# Altium footprint library Connector_Samtec_HLE_SMD.PcbLib: 290 footprints (part 21 of 24)
Each footprint in its own frame and in the unit in brackets; x right, y up, seen from the top. Pads: shape width x height; smd on the part's side, far side on the other; paste and mask are expansions set on the pad; w line width, h text height; cw(c..) or ccw(c..) is an arc to the next point about the centre after c.
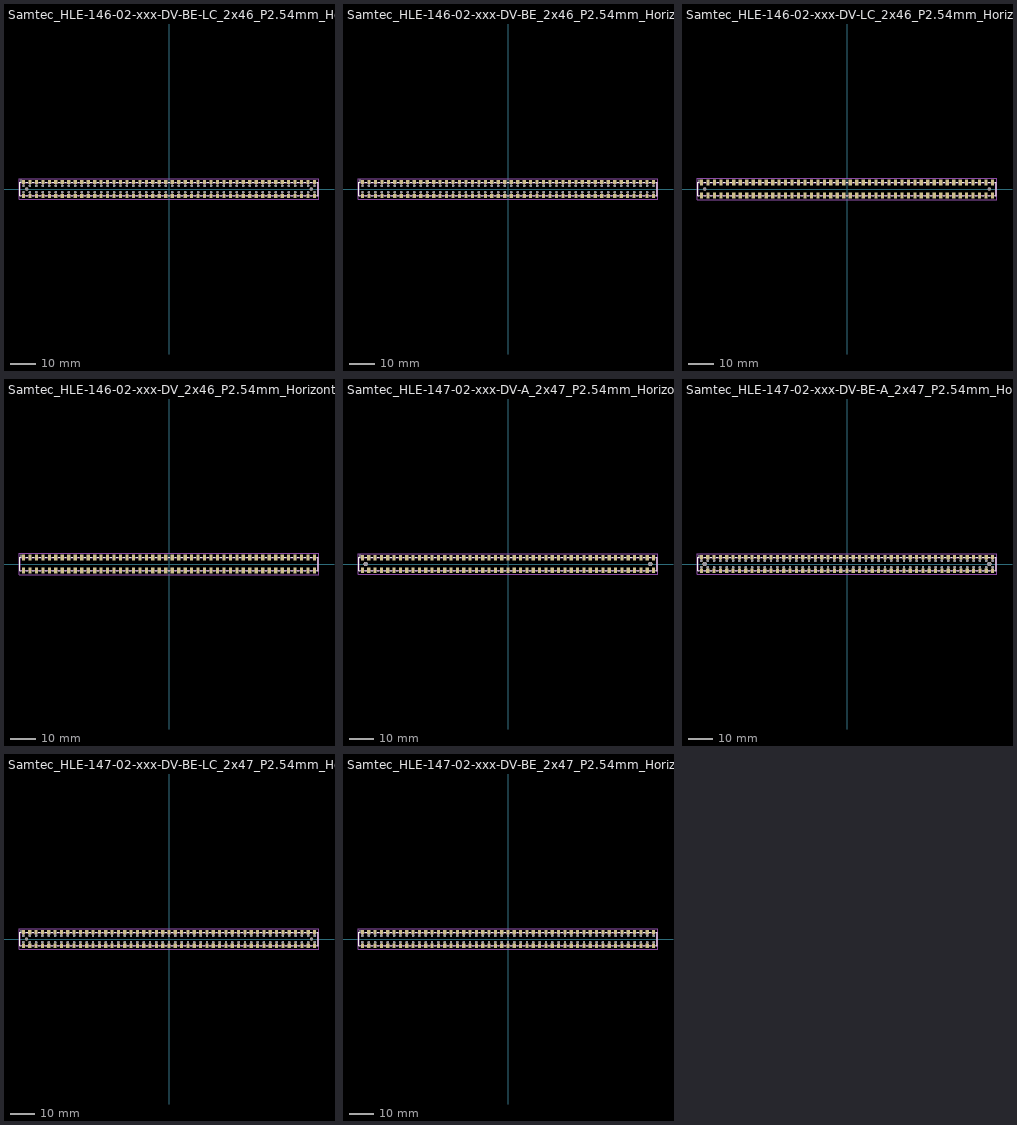
[diagram p20: the footprints below, top view; thin cyan lines are the x and y axes]

## Samtec_HLE-146-02-xxx-DV-BE-LC_2x46_P2.54mm_Horizontal [mm]
pads (186):
  rect 1.27x1.68 smd: 1(-57.15,2.72) 2(-57.15,-2.72) 3(-54.61,2.72) 4(-54.61,-2.72) 5(-52.07,2.72) 6(-52.07,-2.72) 7(-49.53,2.72) 8(-49.53,-2.72) 9(-46.99,2.72) 10(-46.99,-2.72) 11(-44.45,2.72) 12(-44.45,-2.72) 13(-41.91,2.72) 14(-41.91,-2.72) 15(-39.37,2.72) 16(-39.37,-2.72) 17(-36.83,2.72) 18(-36.83,-2.72) 19(-34.29,2.72) 20(-34.29,-2.72) 21(-31.75,2.72) 22(-31.75,-2.72) 23(-29.21,2.72) 24(-29.21,-2.72) 25(-26.67,2.72) 26(-26.67,-2.72) 27(-24.13,2.72) 28(-24.13,-2.72) 29(-21.59,2.72) 30(-21.59,-2.72) 31(-19.05,2.72) 32(-19.05,-2.72) 33(-16.51,2.72) 34(-16.51,-2.72) 35(-13.97,2.72) 36(-13.97,-2.72) 37(-11.43,2.72) 38(-11.43,-2.72) 39(-8.89,2.72) 40(-8.89,-2.72) 41(-6.35,2.72) 42(-6.35,-2.72) 43(-3.81,2.72) 44(-3.81,-2.72) 45(-1.27,2.72) 46(-1.27,-2.72) 47(1.27,2.72) 48(1.27,-2.72) 49(3.81,2.72) 50(3.81,-2.72) 51(6.35,2.72) 52(6.35,-2.72) 53(8.89,2.72) 54(8.89,-2.72) 55(11.43,2.72) 56(11.43,-2.72) 57(13.97,2.72) 58(13.97,-2.72) 59(16.51,2.72) 60(16.51,-2.72) 61(19.05,2.72) 62(19.05,-2.72) 63(21.59,2.72) 64(21.59,-2.72) 65(24.13,2.72) 66(24.13,-2.72) 67(26.67,2.72) 68(26.67,-2.72) 69(29.21,2.72) 70(29.21,-2.72) 71(31.75,2.72) 72(31.75,-2.72) 73(34.29,2.72) 74(34.29,-2.72) 75(36.83,2.72) 76(36.83,-2.72) 77(39.37,2.72) 78(39.37,-2.72) 79(41.91,2.72) 80(41.91,-2.72) 81(44.45,2.72) 82(44.45,-2.72) 83(46.99,2.72) 84(46.99,-2.72) 85(49.53,2.72) 86(49.53,-2.72) 87(52.07,2.72) 88(52.07,-2.72) 89(54.61,2.72) 90(54.61,-2.72) 91(57.15,2.72) 92(57.15,-2.72)
  round 0.97 hole 0.97: Un1(-57.15,1.27) Un2(-57.15,-1.27) Un4(-54.61,1.27) Un5(-54.61,-1.27) Un6(-52.07,1.27) Un7(-52.07,-1.27) Un8(-49.53,1.27) Un9(-49.53,-1.27) Un10(-46.99,1.27) Un11(-46.99,-1.27) Un12(-44.45,1.27) Un13(-44.45,-1.27) Un14(-41.91,1.27) Un15(-41.91,-1.27) Un16(-39.37,1.27) Un17(-39.37,-1.27) Un18(-36.83,1.27) Un19(-36.83,-1.27) Un20(-34.29,1.27) Un21(-34.29,-1.27) Un22(-31.75,1.27) Un23(-31.75,-1.27) Un24(-29.21,1.27) Un25(-29.21,-1.27) Un26(-26.67,1.27) Un27(-26.67,-1.27) Un28(-24.13,1.27) Un29(-24.13,-1.27) Un30(-21.59,1.27) Un31(-21.59,-1.27) Un32(-19.05,1.27) Un33(-19.05,-1.27) Un34(-16.51,1.27) Un35(-16.51,-1.27) Un36(-13.97,1.27) Un37(-13.97,-1.27) Un38(-11.43,1.27) Un39(-11.43,-1.27) Un40(-8.89,1.27) Un41(-8.89,-1.27) Un42(-6.35,1.27) Un43(-6.35,-1.27) Un44(-3.81,1.27) Un45(-3.81,-1.27) Un46(-1.27,1.27) Un47(-1.27,-1.27) Un48(1.27,1.27) Un49(1.27,-1.27) Un50(3.81,1.27) Un51(3.81,-1.27) Un52(6.35,1.27) Un53(6.35,-1.27) Un54(8.89,1.27) Un55(8.89,-1.27) Un56(11.43,1.27) Un57(11.43,-1.27) Un58(13.97,1.27) Un59(13.97,-1.27) Un60(16.51,1.27) Un61(16.51,-1.27) Un62(19.05,1.27) Un63(19.05,-1.27) Un64(21.59,1.27) Un65(21.59,-1.27) Un66(24.13,1.27) Un67(24.13,-1.27) Un68(26.67,1.27) Un69(26.67,-1.27) Un70(29.21,1.27) Un71(29.21,-1.27) Un72(31.75,1.27) Un73(31.75,-1.27) Un74(34.29,1.27) Un75(34.29,-1.27) Un76(36.83,1.27) Un77(36.83,-1.27) Un78(39.37,1.27) Un79(39.37,-1.27) Un80(41.91,1.27) Un81(41.91,-1.27) Un82(44.45,1.27) Un83(44.45,-1.27) Un84(46.99,1.27) Un85(46.99,-1.27) Un86(49.53,1.27) Un87(49.53,-1.27) Un88(52.07,1.27) Un89(52.07,-1.27) Un90(54.61,1.27) Un91(54.61,-1.27) Un93(57.15,1.27) Un94(57.15,-1.27)
  round 1.19 hole 1.19: Un3(-55.88,0) Un92(55.88,0)
F.SilkS:
  lines w0.254: -58.045,-2.65 -58.53,-2.65 -58.53,2.65 -58.045,2.65 -58.045,3.56 ; -56.255,-2.65 -55.505,-2.65 ; -56.255,2.65 -55.505,2.65 ; -53.715,-2.65 -52.965,-2.65 ; -53.715,2.65 -52.965,2.65 ; -51.175,-2.65 -50.425,-2.65 ; -51.175,2.65 -50.425,2.65 ; -48.635,-2.65 -47.885,-2.65 ; -48.635,2.65 -47.885,2.65 ; -46.095,-2.65 -45.345,-2.65 ; -46.095,2.65 -45.345,2.65 ; -43.555,-2.65 -42.805,-2.65 ; -43.555,2.65 -42.805,2.65 ; -41.015,-2.65 -40.265,-2.65 ; -41.015,2.65 -40.265,2.65 ; -38.475,-2.65 -37.725,-2.65 ; -38.475,2.65 -37.725,2.65 ; -35.935,-2.65 -35.185,-2.65 ; -35.935,2.65 -35.185,2.65 ; -33.395,-2.65 -32.645,-2.65 ; -33.395,2.65 -32.645,2.65 ; -30.855,-2.65 -30.105,-2.65 ; -30.855,2.65 -30.105,2.65 ; -28.315,-2.65 -27.565,-2.65 ; -28.315,2.65 -27.565,2.65 ; -25.775,-2.65 -25.025,-2.65 ; -25.775,2.65 -25.025,2.65 ; -23.235,-2.65 -22.485,-2.65 ; -23.235,2.65 -22.485,2.65 ; -20.695,-2.65 -19.945,-2.65 ; -20.695,2.65 -19.945,2.65 ; -18.155,-2.65 -17.405,-2.65 ; -18.155,2.65 -17.405,2.65 ; -15.615,-2.65 -14.865,-2.65 ; -15.615,2.65 -14.865,2.65 ; -13.075,-2.65 -12.325,-2.65 ; -13.075,2.65 -12.325,2.65 ; -10.535,-2.65 -9.785,-2.65 ; -10.535,2.65 -9.785,2.65 ; -7.995,-2.65 -7.245,-2.65 ; -7.995,2.65 -7.245,2.65 ; -5.455,-2.65 -4.705,-2.65 ; -5.455,2.65 -4.705,2.65 ; -2.915,-2.65 -2.165,-2.65 ; -2.915,2.65 -2.165,2.65 ; -0.375,-2.65 0.375,-2.65 ; -0.375,2.65 0.375,2.65 ; 2.165,-2.65 2.915,-2.65 ; 2.165,2.65 2.915,2.65 ; 4.705,-2.65 5.455,-2.65 ; 4.705,2.65 5.455,2.65 ; 7.245,-2.65 7.995,-2.65 ; 7.245,2.65 7.995,2.65 ; 9.785,-2.65 10.535,-2.65 ; 9.785,2.65 10.535,2.65 ; 12.325,-2.65 13.075,-2.65 ; 12.325,2.65 13.075,2.65 ; 14.865,-2.65 15.615,-2.65 ; 14.865,2.65 15.615,2.65 ; 17.405,-2.65 18.155,-2.65 ; 17.405,2.65 18.155,2.65 ; 19.945,-2.65 20.695,-2.65 ; 19.945,2.65 20.695,2.65 ; 22.485,-2.65 23.235,-2.65 ; 22.485,2.65 23.235,2.65 ; 25.025,-2.65 25.775,-2.65 ; 25.025,2.65 25.775,2.65 ; 27.565,-2.65 28.315,-2.65 ; 27.565,2.65 28.315,2.65 ; 30.105,-2.65 30.855,-2.65 ; 30.105,2.65 30.855,2.65 ; 32.645,-2.65 33.395,-2.65 ; 32.645,2.65 33.395,2.65 ; 35.185,-2.65 35.935,-2.65 ; 35.185,2.65 35.935,2.65 ; 37.725,-2.65 38.475,-2.65 ; 37.725,2.65 38.475,2.65 ; 40.265,-2.65 41.015,-2.65 ; 40.265,2.65 41.015,2.65 ; 42.805,-2.65 43.555,-2.65 ; 42.805,2.65 43.555,2.65 ; 45.345,-2.65 46.095,-2.65 ; 45.345,2.65 46.095,2.65 ; 47.885,-2.65 48.635,-2.65 ; 47.885,2.65 48.635,2.65 ; 50.425,-2.65 51.175,-2.65 ; 50.425,2.65 51.175,2.65 ; 52.965,-2.65 53.715,-2.65 ; 52.965,2.65 53.715,2.65 ; 55.505,-2.65 56.255,-2.65 ; 55.505,2.65 56.255,2.65 ; 58.045,-2.65 58.53,-2.65 58.53,2.65 58.045,2.65
Top Assembly:
  lines w0.254: -57.65,2.54 -57.15,1.833 -56.65,2.54 ; -58.42,-2.54 58.42,-2.54 58.42,2.54 -58.42,2.54 -58.42,-2.54
  text "'.Designator'" at -4.047,-2.68 h1
Top Courtyard:
  lines w0.254: -58.92,-4.07 58.92,-4.07 58.92,4.07 -58.92,4.07 -58.92,-4.07
Top Designator:
  text ".Designator" at -7.618,-0.508 h1.52

## Samtec_HLE-146-02-xxx-DV-BE_2x46_P2.54mm_Horizontal [mm]
pads (184):
  rect 1.27x1.68 smd: 1(-57.15,2.72) 2(-57.15,-2.72) 3(-54.61,2.72) 4(-54.61,-2.72) 5(-52.07,2.72) 6(-52.07,-2.72) 7(-49.53,2.72) 8(-49.53,-2.72) 9(-46.99,2.72) 10(-46.99,-2.72) 11(-44.45,2.72) 12(-44.45,-2.72) 13(-41.91,2.72) 14(-41.91,-2.72) 15(-39.37,2.72) 16(-39.37,-2.72) 17(-36.83,2.72) 18(-36.83,-2.72) 19(-34.29,2.72) 20(-34.29,-2.72) 21(-31.75,2.72) 22(-31.75,-2.72) 23(-29.21,2.72) 24(-29.21,-2.72) 25(-26.67,2.72) 26(-26.67,-2.72) 27(-24.13,2.72) 28(-24.13,-2.72) 29(-21.59,2.72) 30(-21.59,-2.72) 31(-19.05,2.72) 32(-19.05,-2.72) 33(-16.51,2.72) 34(-16.51,-2.72) 35(-13.97,2.72) 36(-13.97,-2.72) 37(-11.43,2.72) 38(-11.43,-2.72) 39(-8.89,2.72) 40(-8.89,-2.72) 41(-6.35,2.72) 42(-6.35,-2.72) 43(-3.81,2.72) 44(-3.81,-2.72) 45(-1.27,2.72) 46(-1.27,-2.72) 47(1.27,2.72) 48(1.27,-2.72) 49(3.81,2.72) 50(3.81,-2.72) 51(6.35,2.72) 52(6.35,-2.72) 53(8.89,2.72) 54(8.89,-2.72) 55(11.43,2.72) 56(11.43,-2.72) 57(13.97,2.72) 58(13.97,-2.72) 59(16.51,2.72) 60(16.51,-2.72) 61(19.05,2.72) 62(19.05,-2.72) 63(21.59,2.72) 64(21.59,-2.72) 65(24.13,2.72) 66(24.13,-2.72) 67(26.67,2.72) 68(26.67,-2.72) 69(29.21,2.72) 70(29.21,-2.72) 71(31.75,2.72) 72(31.75,-2.72) 73(34.29,2.72) 74(34.29,-2.72) 75(36.83,2.72) 76(36.83,-2.72) 77(39.37,2.72) 78(39.37,-2.72) 79(41.91,2.72) 80(41.91,-2.72) 81(44.45,2.72) 82(44.45,-2.72) 83(46.99,2.72) 84(46.99,-2.72) 85(49.53,2.72) 86(49.53,-2.72) 87(52.07,2.72) 88(52.07,-2.72) 89(54.61,2.72) 90(54.61,-2.72) 91(57.15,2.72) 92(57.15,-2.72)
  round 0.97 hole 0.97: Un1(-57.15,1.27) Un2(-57.15,-1.27) Un3(-54.61,1.27) Un4(-54.61,-1.27) Un5(-52.07,1.27) Un6(-52.07,-1.27) Un7(-49.53,1.27) Un8(-49.53,-1.27) Un9(-46.99,1.27) Un10(-46.99,-1.27) Un11(-44.45,1.27) Un12(-44.45,-1.27) Un13(-41.91,1.27) Un14(-41.91,-1.27) Un15(-39.37,1.27) Un16(-39.37,-1.27) Un17(-36.83,1.27) Un18(-36.83,-1.27) Un19(-34.29,1.27) Un20(-34.29,-1.27) Un21(-31.75,1.27) Un22(-31.75,-1.27) Un23(-29.21,1.27) Un24(-29.21,-1.27) Un25(-26.67,1.27) Un26(-26.67,-1.27) Un27(-24.13,1.27) Un28(-24.13,-1.27) Un29(-21.59,1.27) Un30(-21.59,-1.27) Un31(-19.05,1.27) Un32(-19.05,-1.27) Un33(-16.51,1.27) Un34(-16.51,-1.27) Un35(-13.97,1.27) Un36(-13.97,-1.27) Un37(-11.43,1.27) Un38(-11.43,-1.27) Un39(-8.89,1.27) Un40(-8.89,-1.27) Un41(-6.35,1.27) Un42(-6.35,-1.27) Un43(-3.81,1.27) Un44(-3.81,-1.27) Un45(-1.27,1.27) Un46(-1.27,-1.27) Un47(1.27,1.27) Un48(1.27,-1.27) Un49(3.81,1.27) Un50(3.81,-1.27) Un51(6.35,1.27) Un52(6.35,-1.27) Un53(8.89,1.27) Un54(8.89,-1.27) Un55(11.43,1.27) Un56(11.43,-1.27) Un57(13.97,1.27) Un58(13.97,-1.27) Un59(16.51,1.27) Un60(16.51,-1.27) Un61(19.05,1.27) Un62(19.05,-1.27) Un63(21.59,1.27) Un64(21.59,-1.27) Un65(24.13,1.27) Un66(24.13,-1.27) Un67(26.67,1.27) Un68(26.67,-1.27) Un69(29.21,1.27) Un70(29.21,-1.27) Un71(31.75,1.27) Un72(31.75,-1.27) Un73(34.29,1.27) Un74(34.29,-1.27) Un75(36.83,1.27) Un76(36.83,-1.27) Un77(39.37,1.27) Un78(39.37,-1.27) Un79(41.91,1.27) Un80(41.91,-1.27) Un81(44.45,1.27) Un82(44.45,-1.27) Un83(46.99,1.27) Un84(46.99,-1.27) Un85(49.53,1.27) Un86(49.53,-1.27) Un87(52.07,1.27) Un88(52.07,-1.27) Un89(54.61,1.27) Un90(54.61,-1.27) Un91(57.15,1.27) Un92(57.15,-1.27)
F.SilkS:
  lines w0.254: -58.045,-2.65 -58.53,-2.65 -58.53,2.65 -58.045,2.65 -58.045,3.56 ; -56.255,-2.65 -55.505,-2.65 ; -56.255,2.65 -55.505,2.65 ; -53.715,-2.65 -52.965,-2.65 ; -53.715,2.65 -52.965,2.65 ; -51.175,-2.65 -50.425,-2.65 ; -51.175,2.65 -50.425,2.65 ; -48.635,-2.65 -47.885,-2.65 ; -48.635,2.65 -47.885,2.65 ; -46.095,-2.65 -45.345,-2.65 ; -46.095,2.65 -45.345,2.65 ; -43.555,-2.65 -42.805,-2.65 ; -43.555,2.65 -42.805,2.65 ; -41.015,-2.65 -40.265,-2.65 ; -41.015,2.65 -40.265,2.65 ; -38.475,-2.65 -37.725,-2.65 ; -38.475,2.65 -37.725,2.65 ; -35.935,-2.65 -35.185,-2.65 ; -35.935,2.65 -35.185,2.65 ; -33.395,-2.65 -32.645,-2.65 ; -33.395,2.65 -32.645,2.65 ; -30.855,-2.65 -30.105,-2.65 ; -30.855,2.65 -30.105,2.65 ; -28.315,-2.65 -27.565,-2.65 ; -28.315,2.65 -27.565,2.65 ; -25.775,-2.65 -25.025,-2.65 ; -25.775,2.65 -25.025,2.65 ; -23.235,-2.65 -22.485,-2.65 ; -23.235,2.65 -22.485,2.65 ; -20.695,-2.65 -19.945,-2.65 ; -20.695,2.65 -19.945,2.65 ; -18.155,-2.65 -17.405,-2.65 ; -18.155,2.65 -17.405,2.65 ; -15.615,-2.65 -14.865,-2.65 ; -15.615,2.65 -14.865,2.65 ; -13.075,-2.65 -12.325,-2.65 ; -13.075,2.65 -12.325,2.65 ; -10.535,-2.65 -9.785,-2.65 ; -10.535,2.65 -9.785,2.65 ; -7.995,-2.65 -7.245,-2.65 ; -7.995,2.65 -7.245,2.65 ; -5.455,-2.65 -4.705,-2.65 ; -5.455,2.65 -4.705,2.65 ; -2.915,-2.65 -2.165,-2.65 ; -2.915,2.65 -2.165,2.65 ; -0.375,-2.65 0.375,-2.65 ; -0.375,2.65 0.375,2.65 ; 2.165,-2.65 2.915,-2.65 ; 2.165,2.65 2.915,2.65 ; 4.705,-2.65 5.455,-2.65 ; 4.705,2.65 5.455,2.65 ; 7.245,-2.65 7.995,-2.65 ; 7.245,2.65 7.995,2.65 ; 9.785,-2.65 10.535,-2.65 ; 9.785,2.65 10.535,2.65 ; 12.325,-2.65 13.075,-2.65 ; 12.325,2.65 13.075,2.65 ; 14.865,-2.65 15.615,-2.65 ; 14.865,2.65 15.615,2.65 ; 17.405,-2.65 18.155,-2.65 ; 17.405,2.65 18.155,2.65 ; 19.945,-2.65 20.695,-2.65 ; 19.945,2.65 20.695,2.65 ; 22.485,-2.65 23.235,-2.65 ; 22.485,2.65 23.235,2.65 ; 25.025,-2.65 25.775,-2.65 ; 25.025,2.65 25.775,2.65 ; 27.565,-2.65 28.315,-2.65 ; 27.565,2.65 28.315,2.65 ; 30.105,-2.65 30.855,-2.65 ; 30.105,2.65 30.855,2.65 ; 32.645,-2.65 33.395,-2.65 ; 32.645,2.65 33.395,2.65 ; 35.185,-2.65 35.935,-2.65 ; 35.185,2.65 35.935,2.65 ; 37.725,-2.65 38.475,-2.65 ; 37.725,2.65 38.475,2.65 ; 40.265,-2.65 41.015,-2.65 ; 40.265,2.65 41.015,2.65 ; 42.805,-2.65 43.555,-2.65 ; 42.805,2.65 43.555,2.65 ; 45.345,-2.65 46.095,-2.65 ; 45.345,2.65 46.095,2.65 ; 47.885,-2.65 48.635,-2.65 ; 47.885,2.65 48.635,2.65 ; 50.425,-2.65 51.175,-2.65 ; 50.425,2.65 51.175,2.65 ; 52.965,-2.65 53.715,-2.65 ; 52.965,2.65 53.715,2.65 ; 55.505,-2.65 56.255,-2.65 ; 55.505,2.65 56.255,2.65 ; 58.045,-2.65 58.53,-2.65 58.53,2.65 58.045,2.65
Top Assembly:
  lines w0.254: -57.65,2.54 -57.15,1.833 -56.65,2.54 ; -58.42,-2.54 58.42,-2.54 58.42,2.54 -58.42,2.54 -58.42,-2.54
  text "'.Designator'" at -4.047,-2.68 h1
Top Courtyard:
  lines w0.254: -58.92,-4.07 58.92,-4.07 58.92,4.07 -58.92,4.07 -58.92,-4.07
Top Designator:
  text ".Designator" at -7.618,-0.508 h1.52

## Samtec_HLE-146-02-xxx-DV-LC_2x46_P2.54mm_Horizontal [mm]
pads (94):
  rect 1.27x2.29 smd: 1(-57.15,2.525) 2(-57.15,-2.525) 3(-54.61,2.525) 4(-54.61,-2.525) 5(-52.07,2.525) 6(-52.07,-2.525) 7(-49.53,2.525) 8(-49.53,-2.525) 9(-46.99,2.525) 10(-46.99,-2.525) 11(-44.45,2.525) 12(-44.45,-2.525) 13(-41.91,2.525) 14(-41.91,-2.525) 15(-39.37,2.525) 16(-39.37,-2.525) 17(-36.83,2.525) 18(-36.83,-2.525) 19(-34.29,2.525) 20(-34.29,-2.525) 21(-31.75,2.525) 22(-31.75,-2.525) 23(-29.21,2.525) 24(-29.21,-2.525) 25(-26.67,2.525) 26(-26.67,-2.525) 27(-24.13,2.525) 28(-24.13,-2.525) 29(-21.59,2.525) 30(-21.59,-2.525) 31(-19.05,2.525) 32(-19.05,-2.525) 33(-16.51,2.525) 34(-16.51,-2.525) 35(-13.97,2.525) 36(-13.97,-2.525) 37(-11.43,2.525) 38(-11.43,-2.525) 39(-8.89,2.525) 40(-8.89,-2.525) 41(-6.35,2.525) 42(-6.35,-2.525) 43(-3.81,2.525) 44(-3.81,-2.525) 45(-1.27,2.525) 46(-1.27,-2.525) 47(1.27,2.525) 48(1.27,-2.525) 49(3.81,2.525) 50(3.81,-2.525) 51(6.35,2.525) 52(6.35,-2.525) 53(8.89,2.525) 54(8.89,-2.525) 55(11.43,2.525) 56(11.43,-2.525) 57(13.97,2.525) 58(13.97,-2.525) 59(16.51,2.525) 60(16.51,-2.525) 61(19.05,2.525) 62(19.05,-2.525) 63(21.59,2.525) 64(21.59,-2.525) 65(24.13,2.525) 66(24.13,-2.525) 67(26.67,2.525) 68(26.67,-2.525) 69(29.21,2.525) 70(29.21,-2.525) 71(31.75,2.525) 72(31.75,-2.525) 73(34.29,2.525) 74(34.29,-2.525) 75(36.83,2.525) 76(36.83,-2.525) 77(39.37,2.525) 78(39.37,-2.525) 79(41.91,2.525) 80(41.91,-2.525) 81(44.45,2.525) 82(44.45,-2.525) 83(46.99,2.525) 84(46.99,-2.525) 85(49.53,2.525) 86(49.53,-2.525) 87(52.07,2.525) 88(52.07,-2.525) 89(54.61,2.525) 90(54.61,-2.525) 91(57.15,2.525) 92(57.15,-2.525)
  round 1.19 hole 1.19: Un1(-55.88,0) Un2(55.88,0)
F.SilkS:
  lines w0.254: -58.045,-2.65 -58.53,-2.65 -58.53,2.65 -58.045,2.65 -58.045,3.67 ; -56.255,-2.65 -55.505,-2.65 ; -56.255,2.65 -55.505,2.65 ; -53.715,-2.65 -52.965,-2.65 ; -53.715,2.65 -52.965,2.65 ; -51.175,-2.65 -50.425,-2.65 ; -51.175,2.65 -50.425,2.65 ; -48.635,-2.65 -47.885,-2.65 ; -48.635,2.65 -47.885,2.65 ; -46.095,-2.65 -45.345,-2.65 ; -46.095,2.65 -45.345,2.65 ; -43.555,-2.65 -42.805,-2.65 ; -43.555,2.65 -42.805,2.65 ; -41.015,-2.65 -40.265,-2.65 ; -41.015,2.65 -40.265,2.65 ; -38.475,-2.65 -37.725,-2.65 ; -38.475,2.65 -37.725,2.65 ; -35.935,-2.65 -35.185,-2.65 ; -35.935,2.65 -35.185,2.65 ; -33.395,-2.65 -32.645,-2.65 ; -33.395,2.65 -32.645,2.65 ; -30.855,-2.65 -30.105,-2.65 ; -30.855,2.65 -30.105,2.65 ; -28.315,-2.65 -27.565,-2.65 ; -28.315,2.65 -27.565,2.65 ; -25.775,-2.65 -25.025,-2.65 ; -25.775,2.65 -25.025,2.65 ; -23.235,-2.65 -22.485,-2.65 ; -23.235,2.65 -22.485,2.65 ; -20.695,-2.65 -19.945,-2.65 ; -20.695,2.65 -19.945,2.65 ; -18.155,-2.65 -17.405,-2.65 ; -18.155,2.65 -17.405,2.65 ; -15.615,-2.65 -14.865,-2.65 ; -15.615,2.65 -14.865,2.65 ; -13.075,-2.65 -12.325,-2.65 ; -13.075,2.65 -12.325,2.65 ; -10.535,-2.65 -9.785,-2.65 ; -10.535,2.65 -9.785,2.65 ; -7.995,-2.65 -7.245,-2.65 ; -7.995,2.65 -7.245,2.65 ; -5.455,-2.65 -4.705,-2.65 ; -5.455,2.65 -4.705,2.65 ; -2.915,-2.65 -2.165,-2.65 ; -2.915,2.65 -2.165,2.65 ; -0.375,-2.65 0.375,-2.65 ; -0.375,2.65 0.375,2.65 ; 2.165,-2.65 2.915,-2.65 ; 2.165,2.65 2.915,2.65 ; 4.705,-2.65 5.455,-2.65 ; 4.705,2.65 5.455,2.65 ; 7.245,-2.65 7.995,-2.65 ; 7.245,2.65 7.995,2.65 ; 9.785,-2.65 10.535,-2.65 ; 9.785,2.65 10.535,2.65 ; 12.325,-2.65 13.075,-2.65 ; 12.325,2.65 13.075,2.65 ; 14.865,-2.65 15.615,-2.65 ; 14.865,2.65 15.615,2.65 ; 17.405,-2.65 18.155,-2.65 ; 17.405,2.65 18.155,2.65 ; 19.945,-2.65 20.695,-2.65 ; 19.945,2.65 20.695,2.65 ; 22.485,-2.65 23.235,-2.65 ; 22.485,2.65 23.235,2.65 ; 25.025,-2.65 25.775,-2.65 ; 25.025,2.65 25.775,2.65 ; 27.565,-2.65 28.315,-2.65 ; 27.565,2.65 28.315,2.65 ; 30.105,-2.65 30.855,-2.65 ; 30.105,2.65 30.855,2.65 ; 32.645,-2.65 33.395,-2.65 ; 32.645,2.65 33.395,2.65 ; 35.185,-2.65 35.935,-2.65 ; 35.185,2.65 35.935,2.65 ; 37.725,-2.65 38.475,-2.65 ; 37.725,2.65 38.475,2.65 ; 40.265,-2.65 41.015,-2.65 ; 40.265,2.65 41.015,2.65 ; 42.805,-2.65 43.555,-2.65 ; 42.805,2.65 43.555,2.65 ; 45.345,-2.65 46.095,-2.65 ; 45.345,2.65 46.095,2.65 ; 47.885,-2.65 48.635,-2.65 ; 47.885,2.65 48.635,2.65 ; 50.425,-2.65 51.175,-2.65 ; 50.425,2.65 51.175,2.65 ; 52.965,-2.65 53.715,-2.65 ; 52.965,2.65 53.715,2.65 ; 55.505,-2.65 56.255,-2.65 ; 55.505,2.65 56.255,2.65 ; 58.045,-2.65 58.53,-2.65 58.53,2.65 58.045,2.65
Top Assembly:
  lines w0.254: -57.65,2.54 -57.15,1.833 -56.65,2.54 ; -58.42,-2.54 58.42,-2.54 58.42,2.54 -58.42,2.54 -58.42,-2.54
  text "'.Designator'" at -4.047,-2.68 h1
Top Courtyard:
  lines w0.254: -58.92,-4.17 58.92,-4.17 58.92,4.17 -58.92,4.17 -58.92,-4.17
Top Designator:
  text ".Designator" at -7.618,-0.508 h1.52

## Samtec_HLE-146-02-xxx-DV_2x46_P2.54mm_Horizontal [mm]
pads (92):
  rect 1.27x2.29 smd: 1(-57.15,2.525) 2(-57.15,-2.525) 3(-54.61,2.525) 4(-54.61,-2.525) 5(-52.07,2.525) 6(-52.07,-2.525) 7(-49.53,2.525) 8(-49.53,-2.525) 9(-46.99,2.525) 10(-46.99,-2.525) 11(-44.45,2.525) 12(-44.45,-2.525) 13(-41.91,2.525) 14(-41.91,-2.525) 15(-39.37,2.525) 16(-39.37,-2.525) 17(-36.83,2.525) 18(-36.83,-2.525) 19(-34.29,2.525) 20(-34.29,-2.525) 21(-31.75,2.525) 22(-31.75,-2.525) 23(-29.21,2.525) 24(-29.21,-2.525) 25(-26.67,2.525) 26(-26.67,-2.525) 27(-24.13,2.525) 28(-24.13,-2.525) 29(-21.59,2.525) 30(-21.59,-2.525) 31(-19.05,2.525) 32(-19.05,-2.525) 33(-16.51,2.525) 34(-16.51,-2.525) 35(-13.97,2.525) 36(-13.97,-2.525) 37(-11.43,2.525) 38(-11.43,-2.525) 39(-8.89,2.525) 40(-8.89,-2.525) 41(-6.35,2.525) 42(-6.35,-2.525) 43(-3.81,2.525) 44(-3.81,-2.525) 45(-1.27,2.525) 46(-1.27,-2.525) 47(1.27,2.525) 48(1.27,-2.525) 49(3.81,2.525) 50(3.81,-2.525) 51(6.35,2.525) 52(6.35,-2.525) 53(8.89,2.525) 54(8.89,-2.525) 55(11.43,2.525) 56(11.43,-2.525) 57(13.97,2.525) 58(13.97,-2.525) 59(16.51,2.525) 60(16.51,-2.525) 61(19.05,2.525) 62(19.05,-2.525) 63(21.59,2.525) 64(21.59,-2.525) 65(24.13,2.525) 66(24.13,-2.525) 67(26.67,2.525) 68(26.67,-2.525) 69(29.21,2.525) 70(29.21,-2.525) 71(31.75,2.525) 72(31.75,-2.525) 73(34.29,2.525) 74(34.29,-2.525) 75(36.83,2.525) 76(36.83,-2.525) 77(39.37,2.525) 78(39.37,-2.525) 79(41.91,2.525) 80(41.91,-2.525) 81(44.45,2.525) 82(44.45,-2.525) 83(46.99,2.525) 84(46.99,-2.525) 85(49.53,2.525) 86(49.53,-2.525) 87(52.07,2.525) 88(52.07,-2.525) 89(54.61,2.525) 90(54.61,-2.525) 91(57.15,2.525) 92(57.15,-2.525)
F.SilkS:
  lines w0.254: -58.045,-2.65 -58.53,-2.65 -58.53,2.65 -58.045,2.65 -58.045,3.67 ; -56.255,-2.65 -55.505,-2.65 ; -56.255,2.65 -55.505,2.65 ; -53.715,-2.65 -52.965,-2.65 ; -53.715,2.65 -52.965,2.65 ; -51.175,-2.65 -50.425,-2.65 ; -51.175,2.65 -50.425,2.65 ; -48.635,-2.65 -47.885,-2.65 ; -48.635,2.65 -47.885,2.65 ; -46.095,-2.65 -45.345,-2.65 ; -46.095,2.65 -45.345,2.65 ; -43.555,-2.65 -42.805,-2.65 ; -43.555,2.65 -42.805,2.65 ; -41.015,-2.65 -40.265,-2.65 ; -41.015,2.65 -40.265,2.65 ; -38.475,-2.65 -37.725,-2.65 ; -38.475,2.65 -37.725,2.65 ; -35.935,-2.65 -35.185,-2.65 ; -35.935,2.65 -35.185,2.65 ; -33.395,-2.65 -32.645,-2.65 ; -33.395,2.65 -32.645,2.65 ; -30.855,-2.65 -30.105,-2.65 ; -30.855,2.65 -30.105,2.65 ; -28.315,-2.65 -27.565,-2.65 ; -28.315,2.65 -27.565,2.65 ; -25.775,-2.65 -25.025,-2.65 ; -25.775,2.65 -25.025,2.65 ; -23.235,-2.65 -22.485,-2.65 ; -23.235,2.65 -22.485,2.65 ; -20.695,-2.65 -19.945,-2.65 ; -20.695,2.65 -19.945,2.65 ; -18.155,-2.65 -17.405,-2.65 ; -18.155,2.65 -17.405,2.65 ; -15.615,-2.65 -14.865,-2.65 ; -15.615,2.65 -14.865,2.65 ; -13.075,-2.65 -12.325,-2.65 ; -13.075,2.65 -12.325,2.65 ; -10.535,-2.65 -9.785,-2.65 ; -10.535,2.65 -9.785,2.65 ; -7.995,-2.65 -7.245,-2.65 ; -7.995,2.65 -7.245,2.65 ; -5.455,-2.65 -4.705,-2.65 ; -5.455,2.65 -4.705,2.65 ; -2.915,-2.65 -2.165,-2.65 ; -2.915,2.65 -2.165,2.65 ; -0.375,-2.65 0.375,-2.65 ; -0.375,2.65 0.375,2.65 ; 2.165,-2.65 2.915,-2.65 ; 2.165,2.65 2.915,2.65 ; 4.705,-2.65 5.455,-2.65 ; 4.705,2.65 5.455,2.65 ; 7.245,-2.65 7.995,-2.65 ; 7.245,2.65 7.995,2.65 ; 9.785,-2.65 10.535,-2.65 ; 9.785,2.65 10.535,2.65 ; 12.325,-2.65 13.075,-2.65 ; 12.325,2.65 13.075,2.65 ; 14.865,-2.65 15.615,-2.65 ; 14.865,2.65 15.615,2.65 ; 17.405,-2.65 18.155,-2.65 ; 17.405,2.65 18.155,2.65 ; 19.945,-2.65 20.695,-2.65 ; 19.945,2.65 20.695,2.65 ; 22.485,-2.65 23.235,-2.65 ; 22.485,2.65 23.235,2.65 ; 25.025,-2.65 25.775,-2.65 ; 25.025,2.65 25.775,2.65 ; 27.565,-2.65 28.315,-2.65 ; 27.565,2.65 28.315,2.65 ; 30.105,-2.65 30.855,-2.65 ; 30.105,2.65 30.855,2.65 ; 32.645,-2.65 33.395,-2.65 ; 32.645,2.65 33.395,2.65 ; 35.185,-2.65 35.935,-2.65 ; 35.185,2.65 35.935,2.65 ; 37.725,-2.65 38.475,-2.65 ; 37.725,2.65 38.475,2.65 ; 40.265,-2.65 41.015,-2.65 ; 40.265,2.65 41.015,2.65 ; 42.805,-2.65 43.555,-2.65 ; 42.805,2.65 43.555,2.65 ; 45.345,-2.65 46.095,-2.65 ; 45.345,2.65 46.095,2.65 ; 47.885,-2.65 48.635,-2.65 ; 47.885,2.65 48.635,2.65 ; 50.425,-2.65 51.175,-2.65 ; 50.425,2.65 51.175,2.65 ; 52.965,-2.65 53.715,-2.65 ; 52.965,2.65 53.715,2.65 ; 55.505,-2.65 56.255,-2.65 ; 55.505,2.65 56.255,2.65 ; 58.045,-2.65 58.53,-2.65 58.53,2.65 58.045,2.65
Top Assembly:
  lines w0.254: -57.65,2.54 -57.15,1.833 -56.65,2.54 ; -58.42,-2.54 58.42,-2.54 58.42,2.54 -58.42,2.54 -58.42,-2.54
  text "'.Designator'" at -4.047,-2.68 h1
Top Courtyard:
  lines w0.254: -58.92,-4.17 58.92,-4.17 58.92,4.17 -58.92,4.17 -58.92,-4.17
Top Designator:
  text ".Designator" at -7.618,-0.508 h1.52

## Samtec_HLE-147-02-xxx-DV-A_2x47_P2.54mm_Horizontal [mm]
pads (96):
  rect 1.27x2.29 smd: 1(-58.42,2.525) 2(-58.42,-2.525) 3(-55.88,2.525) 4(-55.88,-2.525) 5(-53.34,2.525) 6(-53.34,-2.525) 7(-50.8,2.525) 8(-50.8,-2.525) 9(-48.26,2.525) 10(-48.26,-2.525) 11(-45.72,2.525) 12(-45.72,-2.525) 13(-43.18,2.525) 14(-43.18,-2.525) 15(-40.64,2.525) 16(-40.64,-2.525) 17(-38.1,2.525) 18(-38.1,-2.525) 19(-35.56,2.525) 20(-35.56,-2.525) 21(-33.02,2.525) 22(-33.02,-2.525) 23(-30.48,2.525) 24(-30.48,-2.525) 25(-27.94,2.525) 26(-27.94,-2.525) 27(-25.4,2.525) 28(-25.4,-2.525) 29(-22.86,2.525) 30(-22.86,-2.525) 31(-20.32,2.525) 32(-20.32,-2.525) 33(-17.78,2.525) 34(-17.78,-2.525) 35(-15.24,2.525) 36(-15.24,-2.525) 37(-12.7,2.525) 38(-12.7,-2.525) 39(-10.16,2.525) 40(-10.16,-2.525) 41(-7.62,2.525) 42(-7.62,-2.525) 43(-5.08,2.525) 44(-5.08,-2.525) 45(-2.54,2.525) 46(-2.54,-2.525) 47(0,2.525) 48(0,-2.525) 49(2.54,2.525) 50(2.54,-2.525) 51(5.08,2.525) 52(5.08,-2.525) 53(7.62,2.525) 54(7.62,-2.525) 55(10.16,2.525) 56(10.16,-2.525) 57(12.7,2.525) 58(12.7,-2.525) 59(15.24,2.525) 60(15.24,-2.525) 61(17.78,2.525) 62(17.78,-2.525) 63(20.32,2.525) 64(20.32,-2.525) 65(22.86,2.525) 66(22.86,-2.525) 67(25.4,2.525) 68(25.4,-2.525) 69(27.94,2.525) 70(27.94,-2.525) 71(30.48,2.525) 72(30.48,-2.525) 73(33.02,2.525) 74(33.02,-2.525) 75(35.56,2.525) 76(35.56,-2.525) 77(38.1,2.525) 78(38.1,-2.525) 79(40.64,2.525) 80(40.64,-2.525) 81(43.18,2.525) 82(43.18,-2.525) 83(45.72,2.525) 84(45.72,-2.525) 85(48.26,2.525) 86(48.26,-2.525) 87(50.8,2.525) 88(50.8,-2.525) 89(53.34,2.525) 90(53.34,-2.525) 91(55.88,2.525) 92(55.88,-2.525) 93(58.42,2.525) 94(58.42,-2.525)
  round 1.78 hole 1.78: Un1(-57.15,0) Un2(57.15,0)
F.SilkS:
  lines w0.254: -59.315,-2.65 -59.8,-2.65 -59.8,2.65 -59.315,2.65 -59.315,3.67 ; -57.525,-2.65 -56.775,-2.65 ; -57.525,2.65 -56.775,2.65 ; -54.985,-2.65 -54.235,-2.65 ; -54.985,2.65 -54.235,2.65 ; -52.445,-2.65 -51.695,-2.65 ; -52.445,2.65 -51.695,2.65 ; -49.905,-2.65 -49.155,-2.65 ; -49.905,2.65 -49.155,2.65 ; -47.365,-2.65 -46.615,-2.65 ; -47.365,2.65 -46.615,2.65 ; -44.825,-2.65 -44.075,-2.65 ; -44.825,2.65 -44.075,2.65 ; -42.285,-2.65 -41.535,-2.65 ; -42.285,2.65 -41.535,2.65 ; -39.745,-2.65 -38.995,-2.65 ; -39.745,2.65 -38.995,2.65 ; -37.205,-2.65 -36.455,-2.65 ; -37.205,2.65 -36.455,2.65 ; -34.665,-2.65 -33.915,-2.65 ; -34.665,2.65 -33.915,2.65 ; -32.125,-2.65 -31.375,-2.65 ; -32.125,2.65 -31.375,2.65 ; -29.585,-2.65 -28.835,-2.65 ; -29.585,2.65 -28.835,2.65 ; -27.045,-2.65 -26.295,-2.65 ; -27.045,2.65 -26.295,2.65 ; -24.505,-2.65 -23.755,-2.65 ; -24.505,2.65 -23.755,2.65 ; -21.965,-2.65 -21.215,-2.65 ; -21.965,2.65 -21.215,2.65 ; -19.425,-2.65 -18.675,-2.65 ; -19.425,2.65 -18.675,2.65 ; -16.885,-2.65 -16.135,-2.65 ; -16.885,2.65 -16.135,2.65 ; -14.345,-2.65 -13.595,-2.65 ; -14.345,2.65 -13.595,2.65 ; -11.805,-2.65 -11.055,-2.65 ; -11.805,2.65 -11.055,2.65 ; -9.265,-2.65 -8.515,-2.65 ; -9.265,2.65 -8.515,2.65 ; -6.725,-2.65 -5.975,-2.65 ; -6.725,2.65 -5.975,2.65 ; -4.185,-2.65 -3.435,-2.65 ; -4.185,2.65 -3.435,2.65 ; -1.645,-2.65 -0.895,-2.65 ; -1.645,2.65 -0.895,2.65 ; 0.895,-2.65 1.645,-2.65 ; 0.895,2.65 1.645,2.65 ; 3.435,-2.65 4.185,-2.65 ; 3.435,2.65 4.185,2.65 ; 5.975,-2.65 6.725,-2.65 ; 5.975,2.65 6.725,2.65 ; 8.515,-2.65 9.265,-2.65 ; 8.515,2.65 9.265,2.65 ; 11.055,-2.65 11.805,-2.65 ; 11.055,2.65 11.805,2.65 ; 13.595,-2.65 14.345,-2.65 ; 13.595,2.65 14.345,2.65 ; 16.135,-2.65 16.885,-2.65 ; 16.135,2.65 16.885,2.65 ; 18.675,-2.65 19.425,-2.65 ; 18.675,2.65 19.425,2.65 ; 21.215,-2.65 21.965,-2.65 ; 21.215,2.65 21.965,2.65 ; 23.755,-2.65 24.505,-2.65 ; 23.755,2.65 24.505,2.65 ; 26.295,-2.65 27.045,-2.65 ; 26.295,2.65 27.045,2.65 ; 28.835,-2.65 29.585,-2.65 ; 28.835,2.65 29.585,2.65 ; 31.375,-2.65 32.125,-2.65 ; 31.375,2.65 32.125,2.65 ; 33.915,-2.65 34.665,-2.65 ; 33.915,2.65 34.665,2.65 ; 36.455,-2.65 37.205,-2.65 ; 36.455,2.65 37.205,2.65 ; 38.995,-2.65 39.745,-2.65 ; 38.995,2.65 39.745,2.65 ; 41.535,-2.65 42.285,-2.65 ; 41.535,2.65 42.285,2.65 ; 44.075,-2.65 44.825,-2.65 ; 44.075,2.65 44.825,2.65 ; 46.615,-2.65 47.365,-2.65 ; 46.615,2.65 47.365,2.65 ; 49.155,-2.65 49.905,-2.65 ; 49.155,2.65 49.905,2.65 ; 51.695,-2.65 52.445,-2.65 ; 51.695,2.65 52.445,2.65 ; 54.235,-2.65 54.985,-2.65 ; 54.235,2.65 54.985,2.65 ; 56.775,-2.65 57.525,-2.65 ; 56.775,2.65 57.525,2.65 ; 59.315,-2.65 59.8,-2.65 59.8,2.65 59.315,2.65
Top Assembly:
  lines w0.254: -58.92,2.54 -58.42,1.833 -57.92,2.54 ; -59.69,-2.54 59.69,-2.54 59.69,2.54 -59.69,2.54 -59.69,-2.54
  text "'.Designator'" at -4.047,-2.68 h1
Top Courtyard:
  lines w0.254: -60.19,-4.17 60.19,-4.17 60.19,4.17 -60.19,4.17 -60.19,-4.17
Top Designator:
  text ".Designator" at -7.618,-0.508 h1.52

## Samtec_HLE-147-02-xxx-DV-BE-A_2x47_P2.54mm_Horizontal [mm]
pads (190):
  rect 1.27x1.68 smd: 1(-58.42,2.72) 2(-58.42,-2.72) 3(-55.88,2.72) 4(-55.88,-2.72) 5(-53.34,2.72) 6(-53.34,-2.72) 7(-50.8,2.72) 8(-50.8,-2.72) 9(-48.26,2.72) 10(-48.26,-2.72) 11(-45.72,2.72) 12(-45.72,-2.72) 13(-43.18,2.72) 14(-43.18,-2.72) 15(-40.64,2.72) 16(-40.64,-2.72) 17(-38.1,2.72) 18(-38.1,-2.72) 19(-35.56,2.72) 20(-35.56,-2.72) 21(-33.02,2.72) 22(-33.02,-2.72) 23(-30.48,2.72) 24(-30.48,-2.72) 25(-27.94,2.72) 26(-27.94,-2.72) 27(-25.4,2.72) 28(-25.4,-2.72) 29(-22.86,2.72) 30(-22.86,-2.72) 31(-20.32,2.72) 32(-20.32,-2.72) 33(-17.78,2.72) 34(-17.78,-2.72) 35(-15.24,2.72) 36(-15.24,-2.72) 37(-12.7,2.72) 38(-12.7,-2.72) 39(-10.16,2.72) 40(-10.16,-2.72) 41(-7.62,2.72) 42(-7.62,-2.72) 43(-5.08,2.72) 44(-5.08,-2.72) 45(-2.54,2.72) 46(-2.54,-2.72) 47(0,2.72) 48(0,-2.72) 49(2.54,2.72) 50(2.54,-2.72) 51(5.08,2.72) 52(5.08,-2.72) 53(7.62,2.72) 54(7.62,-2.72) 55(10.16,2.72) 56(10.16,-2.72) 57(12.7,2.72) 58(12.7,-2.72) 59(15.24,2.72) 60(15.24,-2.72) 61(17.78,2.72) 62(17.78,-2.72) 63(20.32,2.72) 64(20.32,-2.72) 65(22.86,2.72) 66(22.86,-2.72) 67(25.4,2.72) 68(25.4,-2.72) 69(27.94,2.72) 70(27.94,-2.72) 71(30.48,2.72) 72(30.48,-2.72) 73(33.02,2.72) 74(33.02,-2.72) 75(35.56,2.72) 76(35.56,-2.72) 77(38.1,2.72) 78(38.1,-2.72) 79(40.64,2.72) 80(40.64,-2.72) 81(43.18,2.72) 82(43.18,-2.72) 83(45.72,2.72) 84(45.72,-2.72) 85(48.26,2.72) 86(48.26,-2.72) 87(50.8,2.72) 88(50.8,-2.72) 89(53.34,2.72) 90(53.34,-2.72) 91(55.88,2.72) 92(55.88,-2.72) 93(58.42,2.72) 94(58.42,-2.72)
  round 0.97 hole 0.97: Un1(-58.42,1.27) Un2(-58.42,-1.27) Un4(-55.88,1.27) Un5(-55.88,-1.27) Un6(-53.34,1.27) Un7(-53.34,-1.27) Un8(-50.8,1.27) Un9(-50.8,-1.27) Un10(-48.26,1.27) Un11(-48.26,-1.27) Un12(-45.72,1.27) Un13(-45.72,-1.27) Un14(-43.18,1.27) Un15(-43.18,-1.27) Un16(-40.64,1.27) Un17(-40.64,-1.27) Un18(-38.1,1.27) Un19(-38.1,-1.27) Un20(-35.56,1.27) Un21(-35.56,-1.27) Un22(-33.02,1.27) Un23(-33.02,-1.27) Un24(-30.48,1.27) Un25(-30.48,-1.27) Un26(-27.94,1.27) Un27(-27.94,-1.27) Un28(-25.4,1.27) Un29(-25.4,-1.27) Un30(-22.86,1.27) Un31(-22.86,-1.27) Un32(-20.32,1.27) Un33(-20.32,-1.27) Un34(-17.78,1.27) Un35(-17.78,-1.27) Un36(-15.24,1.27) Un37(-15.24,-1.27) Un38(-12.7,1.27) Un39(-12.7,-1.27) Un40(-10.16,1.27) Un41(-10.16,-1.27) Un42(-7.62,1.27) Un43(-7.62,-1.27) Un44(-5.08,1.27) Un45(-5.08,-1.27) Un46(-2.54,1.27) Un47(-2.54,-1.27) Un48(0,1.27) Un49(0,-1.27) Un50(2.54,1.27) Un51(2.54,-1.27) Un52(5.08,1.27) Un53(5.08,-1.27) Un54(7.62,1.27) Un55(7.62,-1.27) Un56(10.16,1.27) Un57(10.16,-1.27) Un58(12.7,1.27) Un59(12.7,-1.27) Un60(15.24,1.27) Un61(15.24,-1.27) Un62(17.78,1.27) Un63(17.78,-1.27) Un64(20.32,1.27) Un65(20.32,-1.27) Un66(22.86,1.27) Un67(22.86,-1.27) Un68(25.4,1.27) Un69(25.4,-1.27) Un70(27.94,1.27) Un71(27.94,-1.27) Un72(30.48,1.27) Un73(30.48,-1.27) Un74(33.02,1.27) Un75(33.02,-1.27) Un76(35.56,1.27) Un77(35.56,-1.27) Un78(38.1,1.27) Un79(38.1,-1.27) Un80(40.64,1.27) Un81(40.64,-1.27) Un82(43.18,1.27) Un83(43.18,-1.27) Un84(45.72,1.27) Un85(45.72,-1.27) Un86(48.26,1.27) Un87(48.26,-1.27) Un88(50.8,1.27) Un89(50.8,-1.27) Un90(53.34,1.27) Un91(53.34,-1.27) Un92(55.88,1.27) Un93(55.88,-1.27) Un95(58.42,1.27) Un96(58.42,-1.27)
  round 1.78 hole 1.78: Un3(-57.15,0) Un94(57.15,0)
F.SilkS:
  lines w0.254: -59.315,-2.65 -59.8,-2.65 -59.8,2.65 -59.315,2.65 -59.315,3.56 ; -57.525,-2.65 -56.775,-2.65 ; -57.525,2.65 -56.775,2.65 ; -54.985,-2.65 -54.235,-2.65 ; -54.985,2.65 -54.235,2.65 ; -52.445,-2.65 -51.695,-2.65 ; -52.445,2.65 -51.695,2.65 ; -49.905,-2.65 -49.155,-2.65 ; -49.905,2.65 -49.155,2.65 ; -47.365,-2.65 -46.615,-2.65 ; -47.365,2.65 -46.615,2.65 ; -44.825,-2.65 -44.075,-2.65 ; -44.825,2.65 -44.075,2.65 ; -42.285,-2.65 -41.535,-2.65 ; -42.285,2.65 -41.535,2.65 ; -39.745,-2.65 -38.995,-2.65 ; -39.745,2.65 -38.995,2.65 ; -37.205,-2.65 -36.455,-2.65 ; -37.205,2.65 -36.455,2.65 ; -34.665,-2.65 -33.915,-2.65 ; -34.665,2.65 -33.915,2.65 ; -32.125,-2.65 -31.375,-2.65 ; -32.125,2.65 -31.375,2.65 ; -29.585,-2.65 -28.835,-2.65 ; -29.585,2.65 -28.835,2.65 ; -27.045,-2.65 -26.295,-2.65 ; -27.045,2.65 -26.295,2.65 ; -24.505,-2.65 -23.755,-2.65 ; -24.505,2.65 -23.755,2.65 ; -21.965,-2.65 -21.215,-2.65 ; -21.965,2.65 -21.215,2.65 ; -19.425,-2.65 -18.675,-2.65 ; -19.425,2.65 -18.675,2.65 ; -16.885,-2.65 -16.135,-2.65 ; -16.885,2.65 -16.135,2.65 ; -14.345,-2.65 -13.595,-2.65 ; -14.345,2.65 -13.595,2.65 ; -11.805,-2.65 -11.055,-2.65 ; -11.805,2.65 -11.055,2.65 ; -9.265,-2.65 -8.515,-2.65 ; -9.265,2.65 -8.515,2.65 ; -6.725,-2.65 -5.975,-2.65 ; -6.725,2.65 -5.975,2.65 ; -4.185,-2.65 -3.435,-2.65 ; -4.185,2.65 -3.435,2.65 ; -1.645,-2.65 -0.895,-2.65 ; -1.645,2.65 -0.895,2.65 ; 0.895,-2.65 1.645,-2.65 ; 0.895,2.65 1.645,2.65 ; 3.435,-2.65 4.185,-2.65 ; 3.435,2.65 4.185,2.65 ; 5.975,-2.65 6.725,-2.65 ; 5.975,2.65 6.725,2.65 ; 8.515,-2.65 9.265,-2.65 ; 8.515,2.65 9.265,2.65 ; 11.055,-2.65 11.805,-2.65 ; 11.055,2.65 11.805,2.65 ; 13.595,-2.65 14.345,-2.65 ; 13.595,2.65 14.345,2.65 ; 16.135,-2.65 16.885,-2.65 ; 16.135,2.65 16.885,2.65 ; 18.675,-2.65 19.425,-2.65 ; 18.675,2.65 19.425,2.65 ; 21.215,-2.65 21.965,-2.65 ; 21.215,2.65 21.965,2.65 ; 23.755,-2.65 24.505,-2.65 ; 23.755,2.65 24.505,2.65 ; 26.295,-2.65 27.045,-2.65 ; 26.295,2.65 27.045,2.65 ; 28.835,-2.65 29.585,-2.65 ; 28.835,2.65 29.585,2.65 ; 31.375,-2.65 32.125,-2.65 ; 31.375,2.65 32.125,2.65 ; 33.915,-2.65 34.665,-2.65 ; 33.915,2.65 34.665,2.65 ; 36.455,-2.65 37.205,-2.65 ; 36.455,2.65 37.205,2.65 ; 38.995,-2.65 39.745,-2.65 ; 38.995,2.65 39.745,2.65 ; 41.535,-2.65 42.285,-2.65 ; 41.535,2.65 42.285,2.65 ; 44.075,-2.65 44.825,-2.65 ; 44.075,2.65 44.825,2.65 ; 46.615,-2.65 47.365,-2.65 ; 46.615,2.65 47.365,2.65 ; 49.155,-2.65 49.905,-2.65 ; 49.155,2.65 49.905,2.65 ; 51.695,-2.65 52.445,-2.65 ; 51.695,2.65 52.445,2.65 ; 54.235,-2.65 54.985,-2.65 ; 54.235,2.65 54.985,2.65 ; 56.775,-2.65 57.525,-2.65 ; 56.775,2.65 57.525,2.65 ; 59.315,-2.65 59.8,-2.65 59.8,2.65 59.315,2.65
Top Assembly:
  lines w0.254: -58.92,2.54 -58.42,1.833 -57.92,2.54 ; -59.69,-2.54 59.69,-2.54 59.69,2.54 -59.69,2.54 -59.69,-2.54
  text "'.Designator'" at -4.047,-2.68 h1
Top Courtyard:
  lines w0.254: -60.19,-4.07 60.19,-4.07 60.19,4.07 -60.19,4.07 -60.19,-4.07
Top Designator:
  text ".Designator" at -7.618,-0.508 h1.52

## Samtec_HLE-147-02-xxx-DV-BE-LC_2x47_P2.54mm_Horizontal [mm]
pads (190):
  rect 1.27x1.68 smd: 1(-58.42,2.72) 2(-58.42,-2.72) 3(-55.88,2.72) 4(-55.88,-2.72) 5(-53.34,2.72) 6(-53.34,-2.72) 7(-50.8,2.72) 8(-50.8,-2.72) 9(-48.26,2.72) 10(-48.26,-2.72) 11(-45.72,2.72) 12(-45.72,-2.72) 13(-43.18,2.72) 14(-43.18,-2.72) 15(-40.64,2.72) 16(-40.64,-2.72) 17(-38.1,2.72) 18(-38.1,-2.72) 19(-35.56,2.72) 20(-35.56,-2.72) 21(-33.02,2.72) 22(-33.02,-2.72) 23(-30.48,2.72) 24(-30.48,-2.72) 25(-27.94,2.72) 26(-27.94,-2.72) 27(-25.4,2.72) 28(-25.4,-2.72) 29(-22.86,2.72) 30(-22.86,-2.72) 31(-20.32,2.72) 32(-20.32,-2.72) 33(-17.78,2.72) 34(-17.78,-2.72) 35(-15.24,2.72) 36(-15.24,-2.72) 37(-12.7,2.72) 38(-12.7,-2.72) 39(-10.16,2.72) 40(-10.16,-2.72) 41(-7.62,2.72) 42(-7.62,-2.72) 43(-5.08,2.72) 44(-5.08,-2.72) 45(-2.54,2.72) 46(-2.54,-2.72) 47(0,2.72) 48(0,-2.72) 49(2.54,2.72) 50(2.54,-2.72) 51(5.08,2.72) 52(5.08,-2.72) 53(7.62,2.72) 54(7.62,-2.72) 55(10.16,2.72) 56(10.16,-2.72) 57(12.7,2.72) 58(12.7,-2.72) 59(15.24,2.72) 60(15.24,-2.72) 61(17.78,2.72) 62(17.78,-2.72) 63(20.32,2.72) 64(20.32,-2.72) 65(22.86,2.72) 66(22.86,-2.72) 67(25.4,2.72) 68(25.4,-2.72) 69(27.94,2.72) 70(27.94,-2.72) 71(30.48,2.72) 72(30.48,-2.72) 73(33.02,2.72) 74(33.02,-2.72) 75(35.56,2.72) 76(35.56,-2.72) 77(38.1,2.72) 78(38.1,-2.72) 79(40.64,2.72) 80(40.64,-2.72) 81(43.18,2.72) 82(43.18,-2.72) 83(45.72,2.72) 84(45.72,-2.72) 85(48.26,2.72) 86(48.26,-2.72) 87(50.8,2.72) 88(50.8,-2.72) 89(53.34,2.72) 90(53.34,-2.72) 91(55.88,2.72) 92(55.88,-2.72) 93(58.42,2.72) 94(58.42,-2.72)
  round 0.97 hole 0.97: Un1(-58.42,1.27) Un2(-58.42,-1.27) Un4(-55.88,1.27) Un5(-55.88,-1.27) Un6(-53.34,1.27) Un7(-53.34,-1.27) Un8(-50.8,1.27) Un9(-50.8,-1.27) Un10(-48.26,1.27) Un11(-48.26,-1.27) Un12(-45.72,1.27) Un13(-45.72,-1.27) Un14(-43.18,1.27) Un15(-43.18,-1.27) Un16(-40.64,1.27) Un17(-40.64,-1.27) Un18(-38.1,1.27) Un19(-38.1,-1.27) Un20(-35.56,1.27) Un21(-35.56,-1.27) Un22(-33.02,1.27) Un23(-33.02,-1.27) Un24(-30.48,1.27) Un25(-30.48,-1.27) Un26(-27.94,1.27) Un27(-27.94,-1.27) Un28(-25.4,1.27) Un29(-25.4,-1.27) Un30(-22.86,1.27) Un31(-22.86,-1.27) Un32(-20.32,1.27) Un33(-20.32,-1.27) Un34(-17.78,1.27) Un35(-17.78,-1.27) Un36(-15.24,1.27) Un37(-15.24,-1.27) Un38(-12.7,1.27) Un39(-12.7,-1.27) Un40(-10.16,1.27) Un41(-10.16,-1.27) Un42(-7.62,1.27) Un43(-7.62,-1.27) Un44(-5.08,1.27) Un45(-5.08,-1.27) Un46(-2.54,1.27) Un47(-2.54,-1.27) Un48(0,1.27) Un49(0,-1.27) Un50(2.54,1.27) Un51(2.54,-1.27) Un52(5.08,1.27) Un53(5.08,-1.27) Un54(7.62,1.27) Un55(7.62,-1.27) Un56(10.16,1.27) Un57(10.16,-1.27) Un58(12.7,1.27) Un59(12.7,-1.27) Un60(15.24,1.27) Un61(15.24,-1.27) Un62(17.78,1.27) Un63(17.78,-1.27) Un64(20.32,1.27) Un65(20.32,-1.27) Un66(22.86,1.27) Un67(22.86,-1.27) Un68(25.4,1.27) Un69(25.4,-1.27) Un70(27.94,1.27) Un71(27.94,-1.27) Un72(30.48,1.27) Un73(30.48,-1.27) Un74(33.02,1.27) Un75(33.02,-1.27) Un76(35.56,1.27) Un77(35.56,-1.27) Un78(38.1,1.27) Un79(38.1,-1.27) Un80(40.64,1.27) Un81(40.64,-1.27) Un82(43.18,1.27) Un83(43.18,-1.27) Un84(45.72,1.27) Un85(45.72,-1.27) Un86(48.26,1.27) Un87(48.26,-1.27) Un88(50.8,1.27) Un89(50.8,-1.27) Un90(53.34,1.27) Un91(53.34,-1.27) Un92(55.88,1.27) Un93(55.88,-1.27) Un95(58.42,1.27) Un96(58.42,-1.27)
  round 1.19 hole 1.19: Un3(-57.15,0) Un94(57.15,0)
F.SilkS:
  lines w0.254: -59.315,-2.65 -59.8,-2.65 -59.8,2.65 -59.315,2.65 -59.315,3.56 ; -57.525,-2.65 -56.775,-2.65 ; -57.525,2.65 -56.775,2.65 ; -54.985,-2.65 -54.235,-2.65 ; -54.985,2.65 -54.235,2.65 ; -52.445,-2.65 -51.695,-2.65 ; -52.445,2.65 -51.695,2.65 ; -49.905,-2.65 -49.155,-2.65 ; -49.905,2.65 -49.155,2.65 ; -47.365,-2.65 -46.615,-2.65 ; -47.365,2.65 -46.615,2.65 ; -44.825,-2.65 -44.075,-2.65 ; -44.825,2.65 -44.075,2.65 ; -42.285,-2.65 -41.535,-2.65 ; -42.285,2.65 -41.535,2.65 ; -39.745,-2.65 -38.995,-2.65 ; -39.745,2.65 -38.995,2.65 ; -37.205,-2.65 -36.455,-2.65 ; -37.205,2.65 -36.455,2.65 ; -34.665,-2.65 -33.915,-2.65 ; -34.665,2.65 -33.915,2.65 ; -32.125,-2.65 -31.375,-2.65 ; -32.125,2.65 -31.375,2.65 ; -29.585,-2.65 -28.835,-2.65 ; -29.585,2.65 -28.835,2.65 ; -27.045,-2.65 -26.295,-2.65 ; -27.045,2.65 -26.295,2.65 ; -24.505,-2.65 -23.755,-2.65 ; -24.505,2.65 -23.755,2.65 ; -21.965,-2.65 -21.215,-2.65 ; -21.965,2.65 -21.215,2.65 ; -19.425,-2.65 -18.675,-2.65 ; -19.425,2.65 -18.675,2.65 ; -16.885,-2.65 -16.135,-2.65 ; -16.885,2.65 -16.135,2.65 ; -14.345,-2.65 -13.595,-2.65 ; -14.345,2.65 -13.595,2.65 ; -11.805,-2.65 -11.055,-2.65 ; -11.805,2.65 -11.055,2.65 ; -9.265,-2.65 -8.515,-2.65 ; -9.265,2.65 -8.515,2.65 ; -6.725,-2.65 -5.975,-2.65 ; -6.725,2.65 -5.975,2.65 ; -4.185,-2.65 -3.435,-2.65 ; -4.185,2.65 -3.435,2.65 ; -1.645,-2.65 -0.895,-2.65 ; -1.645,2.65 -0.895,2.65 ; 0.895,-2.65 1.645,-2.65 ; 0.895,2.65 1.645,2.65 ; 3.435,-2.65 4.185,-2.65 ; 3.435,2.65 4.185,2.65 ; 5.975,-2.65 6.725,-2.65 ; 5.975,2.65 6.725,2.65 ; 8.515,-2.65 9.265,-2.65 ; 8.515,2.65 9.265,2.65 ; 11.055,-2.65 11.805,-2.65 ; 11.055,2.65 11.805,2.65 ; 13.595,-2.65 14.345,-2.65 ; 13.595,2.65 14.345,2.65 ; 16.135,-2.65 16.885,-2.65 ; 16.135,2.65 16.885,2.65 ; 18.675,-2.65 19.425,-2.65 ; 18.675,2.65 19.425,2.65 ; 21.215,-2.65 21.965,-2.65 ; 21.215,2.65 21.965,2.65 ; 23.755,-2.65 24.505,-2.65 ; 23.755,2.65 24.505,2.65 ; 26.295,-2.65 27.045,-2.65 ; 26.295,2.65 27.045,2.65 ; 28.835,-2.65 29.585,-2.65 ; 28.835,2.65 29.585,2.65 ; 31.375,-2.65 32.125,-2.65 ; 31.375,2.65 32.125,2.65 ; 33.915,-2.65 34.665,-2.65 ; 33.915,2.65 34.665,2.65 ; 36.455,-2.65 37.205,-2.65 ; 36.455,2.65 37.205,2.65 ; 38.995,-2.65 39.745,-2.65 ; 38.995,2.65 39.745,2.65 ; 41.535,-2.65 42.285,-2.65 ; 41.535,2.65 42.285,2.65 ; 44.075,-2.65 44.825,-2.65 ; 44.075,2.65 44.825,2.65 ; 46.615,-2.65 47.365,-2.65 ; 46.615,2.65 47.365,2.65 ; 49.155,-2.65 49.905,-2.65 ; 49.155,2.65 49.905,2.65 ; 51.695,-2.65 52.445,-2.65 ; 51.695,2.65 52.445,2.65 ; 54.235,-2.65 54.985,-2.65 ; 54.235,2.65 54.985,2.65 ; 56.775,-2.65 57.525,-2.65 ; 56.775,2.65 57.525,2.65 ; 59.315,-2.65 59.8,-2.65 59.8,2.65 59.315,2.65
Top Assembly:
  lines w0.254: -58.92,2.54 -58.42,1.833 -57.92,2.54 ; -59.69,-2.54 59.69,-2.54 59.69,2.54 -59.69,2.54 -59.69,-2.54
  text "'.Designator'" at -4.047,-2.68 h1
Top Courtyard:
  lines w0.254: -60.19,-4.07 60.19,-4.07 60.19,4.07 -60.19,4.07 -60.19,-4.07
Top Designator:
  text ".Designator" at -7.618,-0.508 h1.52

## Samtec_HLE-147-02-xxx-DV-BE_2x47_P2.54mm_Horizontal [mm]
pads (188):
  rect 1.27x1.68 smd: 1(-58.42,2.72) 2(-58.42,-2.72) 3(-55.88,2.72) 4(-55.88,-2.72) 5(-53.34,2.72) 6(-53.34,-2.72) 7(-50.8,2.72) 8(-50.8,-2.72) 9(-48.26,2.72) 10(-48.26,-2.72) 11(-45.72,2.72) 12(-45.72,-2.72) 13(-43.18,2.72) 14(-43.18,-2.72) 15(-40.64,2.72) 16(-40.64,-2.72) 17(-38.1,2.72) 18(-38.1,-2.72) 19(-35.56,2.72) 20(-35.56,-2.72) 21(-33.02,2.72) 22(-33.02,-2.72) 23(-30.48,2.72) 24(-30.48,-2.72) 25(-27.94,2.72) 26(-27.94,-2.72) 27(-25.4,2.72) 28(-25.4,-2.72) 29(-22.86,2.72) 30(-22.86,-2.72) 31(-20.32,2.72) 32(-20.32,-2.72) 33(-17.78,2.72) 34(-17.78,-2.72) 35(-15.24,2.72) 36(-15.24,-2.72) 37(-12.7,2.72) 38(-12.7,-2.72) 39(-10.16,2.72) 40(-10.16,-2.72) 41(-7.62,2.72) 42(-7.62,-2.72) 43(-5.08,2.72) 44(-5.08,-2.72) 45(-2.54,2.72) 46(-2.54,-2.72) 47(0,2.72) 48(0,-2.72) 49(2.54,2.72) 50(2.54,-2.72) 51(5.08,2.72) 52(5.08,-2.72) 53(7.62,2.72) 54(7.62,-2.72) 55(10.16,2.72) 56(10.16,-2.72) 57(12.7,2.72) 58(12.7,-2.72) 59(15.24,2.72) 60(15.24,-2.72) 61(17.78,2.72) 62(17.78,-2.72) 63(20.32,2.72) 64(20.32,-2.72) 65(22.86,2.72) 66(22.86,-2.72) 67(25.4,2.72) 68(25.4,-2.72) 69(27.94,2.72) 70(27.94,-2.72) 71(30.48,2.72) 72(30.48,-2.72) 73(33.02,2.72) 74(33.02,-2.72) 75(35.56,2.72) 76(35.56,-2.72) 77(38.1,2.72) 78(38.1,-2.72) 79(40.64,2.72) 80(40.64,-2.72) 81(43.18,2.72) 82(43.18,-2.72) 83(45.72,2.72) 84(45.72,-2.72) 85(48.26,2.72) 86(48.26,-2.72) 87(50.8,2.72) 88(50.8,-2.72) 89(53.34,2.72) 90(53.34,-2.72) 91(55.88,2.72) 92(55.88,-2.72) 93(58.42,2.72) 94(58.42,-2.72)
  round 0.97 hole 0.97: Un1(-58.42,1.27) Un2(-58.42,-1.27) Un3(-55.88,1.27) Un4(-55.88,-1.27) Un5(-53.34,1.27) Un6(-53.34,-1.27) Un7(-50.8,1.27) Un8(-50.8,-1.27) Un9(-48.26,1.27) Un10(-48.26,-1.27) Un11(-45.72,1.27) Un12(-45.72,-1.27) Un13(-43.18,1.27) Un14(-43.18,-1.27) Un15(-40.64,1.27) Un16(-40.64,-1.27) Un17(-38.1,1.27) Un18(-38.1,-1.27) Un19(-35.56,1.27) Un20(-35.56,-1.27) Un21(-33.02,1.27) Un22(-33.02,-1.27) Un23(-30.48,1.27) Un24(-30.48,-1.27) Un25(-27.94,1.27) Un26(-27.94,-1.27) Un27(-25.4,1.27) Un28(-25.4,-1.27) Un29(-22.86,1.27) Un30(-22.86,-1.27) Un31(-20.32,1.27) Un32(-20.32,-1.27) Un33(-17.78,1.27) Un34(-17.78,-1.27) Un35(-15.24,1.27) Un36(-15.24,-1.27) Un37(-12.7,1.27) Un38(-12.7,-1.27) Un39(-10.16,1.27) Un40(-10.16,-1.27) Un41(-7.62,1.27) Un42(-7.62,-1.27) Un43(-5.08,1.27) Un44(-5.08,-1.27) Un45(-2.54,1.27) Un46(-2.54,-1.27) Un47(0,1.27) Un48(0,-1.27) Un49(2.54,1.27) Un50(2.54,-1.27) Un51(5.08,1.27) Un52(5.08,-1.27) Un53(7.62,1.27) Un54(7.62,-1.27) Un55(10.16,1.27) Un56(10.16,-1.27) Un57(12.7,1.27) Un58(12.7,-1.27) Un59(15.24,1.27) Un60(15.24,-1.27) Un61(17.78,1.27) Un62(17.78,-1.27) Un63(20.32,1.27) Un64(20.32,-1.27) Un65(22.86,1.27) Un66(22.86,-1.27) Un67(25.4,1.27) Un68(25.4,-1.27) Un69(27.94,1.27) Un70(27.94,-1.27) Un71(30.48,1.27) Un72(30.48,-1.27) Un73(33.02,1.27) Un74(33.02,-1.27) Un75(35.56,1.27) Un76(35.56,-1.27) Un77(38.1,1.27) Un78(38.1,-1.27) Un79(40.64,1.27) Un80(40.64,-1.27) Un81(43.18,1.27) Un82(43.18,-1.27) Un83(45.72,1.27) Un84(45.72,-1.27) Un85(48.26,1.27) Un86(48.26,-1.27) Un87(50.8,1.27) Un88(50.8,-1.27) Un89(53.34,1.27) Un90(53.34,-1.27) Un91(55.88,1.27) Un92(55.88,-1.27) Un93(58.42,1.27) Un94(58.42,-1.27)
F.SilkS:
  lines w0.254: -59.315,-2.65 -59.8,-2.65 -59.8,2.65 -59.315,2.65 -59.315,3.56 ; -57.525,-2.65 -56.775,-2.65 ; -57.525,2.65 -56.775,2.65 ; -54.985,-2.65 -54.235,-2.65 ; -54.985,2.65 -54.235,2.65 ; -52.445,-2.65 -51.695,-2.65 ; -52.445,2.65 -51.695,2.65 ; -49.905,-2.65 -49.155,-2.65 ; -49.905,2.65 -49.155,2.65 ; -47.365,-2.65 -46.615,-2.65 ; -47.365,2.65 -46.615,2.65 ; -44.825,-2.65 -44.075,-2.65 ; -44.825,2.65 -44.075,2.65 ; -42.285,-2.65 -41.535,-2.65 ; -42.285,2.65 -41.535,2.65 ; -39.745,-2.65 -38.995,-2.65 ; -39.745,2.65 -38.995,2.65 ; -37.205,-2.65 -36.455,-2.65 ; -37.205,2.65 -36.455,2.65 ; -34.665,-2.65 -33.915,-2.65 ; -34.665,2.65 -33.915,2.65 ; -32.125,-2.65 -31.375,-2.65 ; -32.125,2.65 -31.375,2.65 ; -29.585,-2.65 -28.835,-2.65 ; -29.585,2.65 -28.835,2.65 ; -27.045,-2.65 -26.295,-2.65 ; -27.045,2.65 -26.295,2.65 ; -24.505,-2.65 -23.755,-2.65 ; -24.505,2.65 -23.755,2.65 ; -21.965,-2.65 -21.215,-2.65 ; -21.965,2.65 -21.215,2.65 ; -19.425,-2.65 -18.675,-2.65 ; -19.425,2.65 -18.675,2.65 ; -16.885,-2.65 -16.135,-2.65 ; -16.885,2.65 -16.135,2.65 ; -14.345,-2.65 -13.595,-2.65 ; -14.345,2.65 -13.595,2.65 ; -11.805,-2.65 -11.055,-2.65 ; -11.805,2.65 -11.055,2.65 ; -9.265,-2.65 -8.515,-2.65 ; -9.265,2.65 -8.515,2.65 ; -6.725,-2.65 -5.975,-2.65 ; -6.725,2.65 -5.975,2.65 ; -4.185,-2.65 -3.435,-2.65 ; -4.185,2.65 -3.435,2.65 ; -1.645,-2.65 -0.895,-2.65 ; -1.645,2.65 -0.895,2.65 ; 0.895,-2.65 1.645,-2.65 ; 0.895,2.65 1.645,2.65 ; 3.435,-2.65 4.185,-2.65 ; 3.435,2.65 4.185,2.65 ; 5.975,-2.65 6.725,-2.65 ; 5.975,2.65 6.725,2.65 ; 8.515,-2.65 9.265,-2.65 ; 8.515,2.65 9.265,2.65 ; 11.055,-2.65 11.805,-2.65 ; 11.055,2.65 11.805,2.65 ; 13.595,-2.65 14.345,-2.65 ; 13.595,2.65 14.345,2.65 ; 16.135,-2.65 16.885,-2.65 ; 16.135,2.65 16.885,2.65 ; 18.675,-2.65 19.425,-2.65 ; 18.675,2.65 19.425,2.65 ; 21.215,-2.65 21.965,-2.65 ; 21.215,2.65 21.965,2.65 ; 23.755,-2.65 24.505,-2.65 ; 23.755,2.65 24.505,2.65 ; 26.295,-2.65 27.045,-2.65 ; 26.295,2.65 27.045,2.65 ; 28.835,-2.65 29.585,-2.65 ; 28.835,2.65 29.585,2.65 ; 31.375,-2.65 32.125,-2.65 ; 31.375,2.65 32.125,2.65 ; 33.915,-2.65 34.665,-2.65 ; 33.915,2.65 34.665,2.65 ; 36.455,-2.65 37.205,-2.65 ; 36.455,2.65 37.205,2.65 ; 38.995,-2.65 39.745,-2.65 ; 38.995,2.65 39.745,2.65 ; 41.535,-2.65 42.285,-2.65 ; 41.535,2.65 42.285,2.65 ; 44.075,-2.65 44.825,-2.65 ; 44.075,2.65 44.825,2.65 ; 46.615,-2.65 47.365,-2.65 ; 46.615,2.65 47.365,2.65 ; 49.155,-2.65 49.905,-2.65 ; 49.155,2.65 49.905,2.65 ; 51.695,-2.65 52.445,-2.65 ; 51.695,2.65 52.445,2.65 ; 54.235,-2.65 54.985,-2.65 ; 54.235,2.65 54.985,2.65 ; 56.775,-2.65 57.525,-2.65 ; 56.775,2.65 57.525,2.65 ; 59.315,-2.65 59.8,-2.65 59.8,2.65 59.315,2.65
Top Assembly:
  lines w0.254: -58.92,2.54 -58.42,1.833 -57.92,2.54 ; -59.69,-2.54 59.69,-2.54 59.69,2.54 -59.69,2.54 -59.69,-2.54
  text "'.Designator'" at -4.047,-2.68 h1
Top Courtyard:
  lines w0.254: -60.19,-4.07 60.19,-4.07 60.19,4.07 -60.19,4.07 -60.19,-4.07
Top Designator:
  text ".Designator" at -7.618,-0.508 h1.52